# Altium footprint library piher.PCBLIB: 7 footprints
Each footprint in its own frame and in the unit in brackets; x right, y up, seen from the top. Pads: shape width x height; smd on the part's side, far side on the other; paste and mask are expansions set on the pad; w line width, h text height; cw(c..) or ccw(c..) is an arc to the next point about the centre after c.
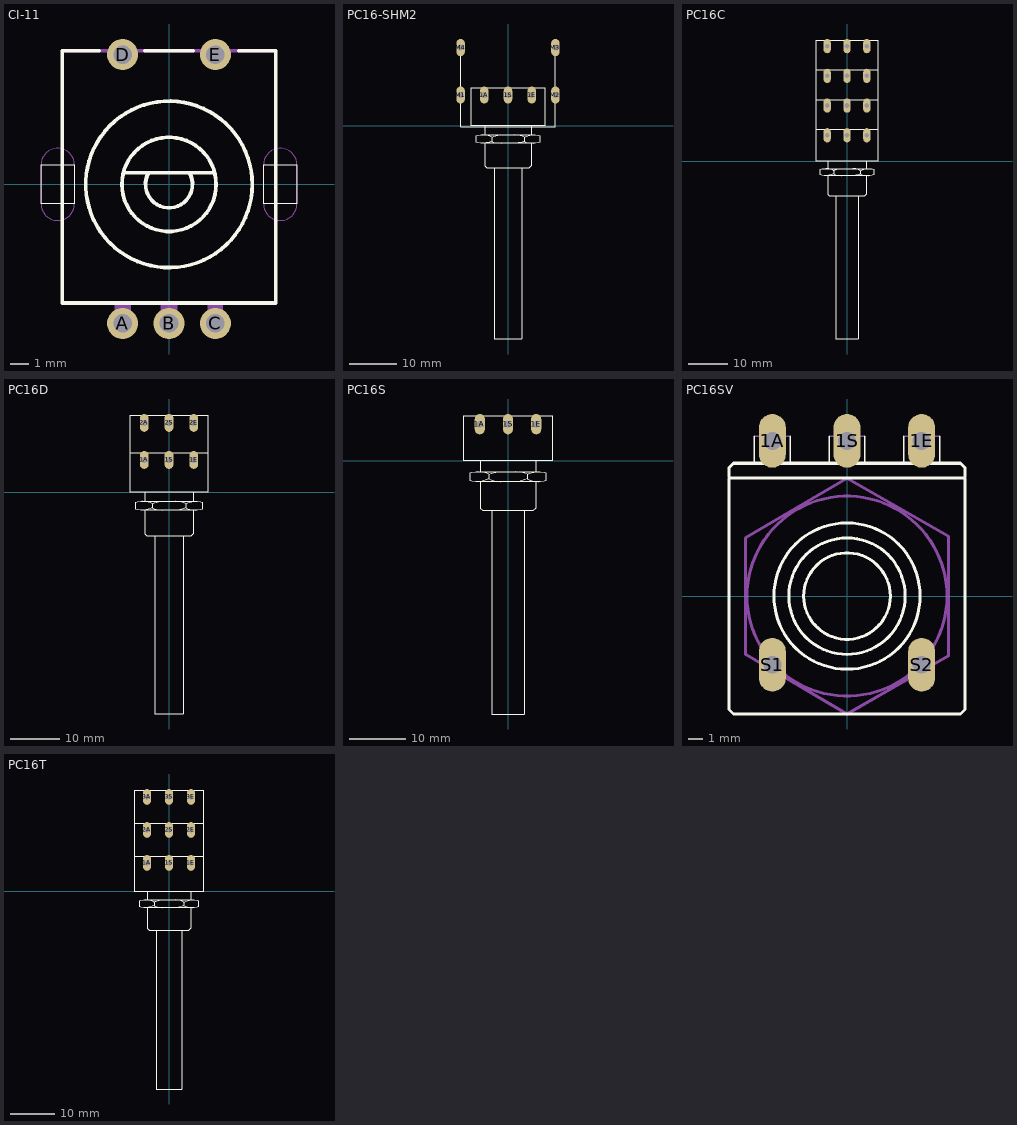
[diagram p0: the footprints below, top view; thin cyan lines are the x and y axes]

## CI-11 [mil]
pads (5):
  round 66 hole 39.37: A(-98.43,-295.28) B(0,-295.28) C(98.43,-295.28) D(-98.43,275.59) E(98.43,275.59)
Top Overlay:
  circle w8: c0,0 r176.78
  circle w8: c0,0 r100
  lines w0: -271.65,-41.34 -200.79,-41.34 -200.79,41.34 -271.65,41.34 -271.65,-41.34 ; 200.79,-41.34 271.65,-41.34 271.65,41.34 200.79,41.34 200.79,-41.34
  lines w8: -148.62,283.46 -226.38,283.46 -226.38,-251.97 226.38,-251.97 226.38,283.46 148.62,283.46 ; -96.46,24.61 95.47,24.61 ; -51.38,283.46 51.38,283.46 ; -43.31,24.61 ccw(c0,0) 43.31,24.61 -43.31,24.61
Mechanical 1:
  lines w0: -271.65,-41.34 -271.65,41.34 cw(c-236.22,41.34) -200.79,41.34 -200.79,-41.34 cw(c-236.22,-41.34) -271.65,-41.34 ; 200.79,-41.34 200.79,41.34 cw(c236.22,41.34) 271.65,41.34 271.65,-41.34 cw(c236.22,-41.34) 200.79,-41.34
Mechanical 16:
  rectangle: -116.14,-300.2 -80.71,-254.92
  rectangle: -17.72,-300.2 17.72,-254.92
  rectangle: 81.69,-300.2 115.16,-253.94
  lines w8: -226.38,283.46 226.38,283.46

## PC16-SHM2 [mm]
pads (7):
  oval 1.8x3.6 hole 1.2: 1A(-5,6.5) 1E(5,6.5) 1S(0,6.5) M1(-10,6.5) M2(10,6.5) M3(10,16.5) M4(-10,16.5)
Top Overlay:
  lines w0.203: -10,5.6 -10,-0.2 10,-0.2 10,5.6 ; -10,7.4 -10,15.5 ; -5.4,-3.7 -4.6,-3.6 -3.8,-3.4 -3.4,-3.2 ; -5.4,-1.9 -4.6,-2 -3.8,-2.2 -3.4,-2.4 ; -2.9,-8.9 -2.9,-44.9 2.9,-44.9 2.9,-8.9 ; -1.4,-3.7 -2.2,-3.6 -3,-3.4 -3.4,-3.2 ; -1.4,-1.9 -2.2,-2 -3,-2.2 -3.4,-2.4 ; 1.4,-3.7 2.2,-3.6 3,-3.4 3.4,-3.2 ; 1.4,-1.9 2.2,-2 3,-2.2 3.4,-2.4 ; 5.4,-3.7 4.6,-3.6 3.8,-3.4 3.4,-3.2 ; 5.4,-1.9 4.6,-2 3.8,-2.2 3.4,-2.4 ; 10,7.4 10,15.5 ; -4.9,-3.7 -4.9,-8.4 -4.5,-8.8 4.5,-8.8 4.9,-8.4 4.9,-3.7 ; -4.9,-3.7 4.9,-3.7 ; -4.9,-3.7 -5.7,-3.7 -6.4,-3.6 -6.7,-3.5 -6.7,-2.1 -6.4,-2 -5.7,-1.9 -4.9,-1.9 ; -4.9,-1.9 -4.9,0.1 ; -4.9,-1.9 4.9,-1.9 ; -4.9,0.1 -7.9,0.1 -7.9,8 7.9,8 7.9,0.1 4.9,0.1 ; -4.9,0.1 4.9,0.1 ; -3.4,-3.2 -3.4,-2.4 ; 3.4,-3.2 3.4,-2.4 ; 4.9,-3.7 5.7,-3.7 6.4,-3.6 6.7,-3.5 6.7,-2.1 6.4,-2 5.7,-1.9 4.9,-1.9 ; 4.9,-1.9 4.9,0.1
Mechanical 16:
  lines w0.203: -10,5.6 -10,7.4 ; -10,15.5 -10,17.1 ; 10,5.6 10,7.4 ; 10,15.5 10,17.1

## PC16C [mm]
pads (12):
  oval 1.8x3.6 hole 1.2: 1A(-5,6.5) 1E(5,6.5) 1S(0,6.5) 2A(-5,14) 2E(5,14) 2S(0,14) 3A(-5,21.5) 3E(5,21.5) 3S(0,21.5) 4A(-5,29) 4E(5,29) 4S(0,29)
Top Overlay:
  lines w0.203: -7.9,7.6 -7.9,15.5 7.9,15.5 7.9,7.6 ; -7.9,15.1 -7.9,23 7.9,23 7.9,15.1 ; -7.9,22.6 -7.9,30.5 7.9,30.5 7.9,22.6 ; -5.4,-3.7 -4.6,-3.6 -3.8,-3.4 -3.4,-3.2 ; -5.4,-1.9 -4.6,-2 -3.8,-2.2 -3.4,-2.4 ; -2.9,-8.9 -2.9,-44.9 2.9,-44.9 2.9,-8.9 ; -1.4,-3.7 -2.2,-3.6 -3,-3.4 -3.4,-3.2 ; -1.4,-1.9 -2.2,-2 -3,-2.2 -3.4,-2.4 ; 1.4,-3.7 2.2,-3.6 3,-3.4 3.4,-3.2 ; 1.4,-1.9 2.2,-2 3,-2.2 3.4,-2.4 ; 5.4,-3.7 4.6,-3.6 3.8,-3.4 3.4,-3.2 ; 5.4,-1.9 4.6,-2 3.8,-2.2 3.4,-2.4 ; -4.9,-3.7 -4.9,-8.4 -4.5,-8.8 4.5,-8.8 4.9,-8.4 4.9,-3.7 ; -4.9,-3.7 4.9,-3.7 ; -4.9,-3.7 -5.7,-3.7 -6.4,-3.6 -6.7,-3.5 -6.7,-2.1 -6.4,-2 -5.7,-1.9 -4.9,-1.9 ; -4.9,-1.9 -4.9,0.1 ; -4.9,-1.9 4.9,-1.9 ; -4.9,0.1 -7.9,0.1 -7.9,8 7.9,8 7.9,0.1 4.9,0.1 ; -4.9,0.1 4.9,0.1 ; -3.4,-3.2 -3.4,-2.4 ; 3.4,-3.2 3.4,-2.4 ; 4.9,-3.7 5.7,-3.7 6.4,-3.6 6.7,-3.5 6.7,-2.1 6.4,-2 5.7,-1.9 4.9,-1.9 ; 4.9,-1.9 4.9,0.1

## PC16D [mm]
pads (6):
  oval 1.8x3.6 hole 1.2: 1A(-5,6.5) 1E(5,6.5) 1S(0,6.5) 2A(-5,14) 2E(5,14) 2S(0,14)
Top Overlay:
  lines w0.203: -7.9,7.6 -7.9,15.5 7.9,15.5 7.9,7.6 ; -5.4,-3.7 -4.6,-3.6 -3.8,-3.4 -3.4,-3.2 ; -5.4,-1.9 -4.6,-2 -3.8,-2.2 -3.4,-2.4 ; -2.9,-8.9 -2.9,-44.9 2.9,-44.9 2.9,-8.9 ; -1.4,-3.7 -2.2,-3.6 -3,-3.4 -3.4,-3.2 ; -1.4,-1.9 -2.2,-2 -3,-2.2 -3.4,-2.4 ; 1.4,-3.7 2.2,-3.6 3,-3.4 3.4,-3.2 ; 1.4,-1.9 2.2,-2 3,-2.2 3.4,-2.4 ; 5.4,-3.7 4.6,-3.6 3.8,-3.4 3.4,-3.2 ; 5.4,-1.9 4.6,-2 3.8,-2.2 3.4,-2.4 ; -4.9,-3.7 -4.9,-8.4 -4.5,-8.8 4.5,-8.8 4.9,-8.4 4.9,-3.7 ; -4.9,-3.7 4.9,-3.7 ; -4.9,-3.7 -5.7,-3.7 -6.4,-3.6 -6.7,-3.5 -6.7,-2.1 -6.4,-2 -5.7,-1.9 -4.9,-1.9 ; -4.9,-1.9 -4.9,0.1 ; -4.9,-1.9 4.9,-1.9 ; -4.9,0.1 -7.9,0.1 -7.9,8 7.9,8 7.9,0.1 4.9,0.1 ; -4.9,0.1 4.9,0.1 ; -3.4,-3.2 -3.4,-2.4 ; 3.4,-3.2 3.4,-2.4 ; 4.9,-3.7 5.7,-3.7 6.4,-3.6 6.7,-3.5 6.7,-2.1 6.4,-2 5.7,-1.9 4.9,-1.9 ; 4.9,-1.9 4.9,0.1

## PC16S [mm]
pads (3):
  oval 1.8x3.6 hole 1.2: 1A(-5,6.5) 1E(5,6.5) 1S(0,6.5)
Top Overlay:
  lines w0.203: -5.4,-3.7 -4.6,-3.6 -3.8,-3.4 -3.4,-3.2 -3.4,-2.4 ; -5.4,-1.9 -4.6,-2 -3.8,-2.2 -3.4,-2.4 ; -3.407,-3.2 -3.007,-3.4 ; -3,-3.4 -2.2,-3.6 -1.4,-3.7 ; -2.9,-8.9 -2.9,-44.9 2.9,-44.9 2.9,-8.9 ; -1.4,-1.9 -2.2,-2 -3,-2.2 -3.4,-2.4 ; 1.4,-3.7 2.2,-3.6 3,-3.4 3.4,-3.2 ; 1.4,-1.9 2.2,-2 3,-2.2 3.4,-2.4 ; 5.4,-3.7 4.6,-3.6 3.8,-3.4 3.4,-3.2 ; 5.4,-1.9 4.6,-2 3.8,-2.2 3.4,-2.4 ; -4.9,-3.7 -4.9,-8.4 -4.5,-8.8 4.5,-8.8 4.9,-8.4 4.9,-3.7 ; -4.9,-3.7 4.9,-3.7 ; -4.9,-3.7 -5.7,-3.7 -6.4,-3.6 -6.7,-3.5 -6.7,-2.1 -6.4,-2 -5.7,-1.9 -4.9,-1.9 ; -4.9,-1.9 -4.9,0.1 ; -4.9,-1.9 4.9,-1.9 ; -4.9,0.1 -7.9,0.1 -7.9,8 7.9,8 7.9,0.1 4.9,0.1 ; -4.9,0.1 4.9,0.1 ; 3.4,-3.2 3.4,-2.4 ; 4.9,-3.7 5.7,-3.7 6.4,-3.6 6.7,-3.5 6.7,-2.1 6.4,-2 5.7,-1.9 4.9,-1.9 ; 4.9,-1.9 4.9,0.1

## PC16SV [mm]
pads (5):
  oval 1.8x3.6 hole 1.2: 1A(-5,10.4) 1E(5,10.4) 1S(0,10.4) S1(-5,-4.6) S2(5,-4.6)
Top Overlay:
  circle w0.203: c0,0 r4.9
  circle w0.203: c0,0 r2.9
  circle w0.203: c0,0 r3.9
  lines w0.102: -6.2,9 -6.2,10.7 ; -3.8,9 -3.8,10.7 ; -1.2,9 -1.2,10.7 ; 1.2,9 1.2,10.7 ; 3.8,9 3.8,10.7 ; 6.2,9 6.2,10.7
  lines w0.203: -7.9,8 -7.9,8.6 -7.6,8.9 7.6,8.9 7.9,8.6 7.9,8 ; -7.9,-7.6 -7.9,7.9 0,7.9 7.9,7.9 7.9,-7.6 7.6,-7.9 0,-7.9 -7.6,-7.9 -7.9,-7.6
Mechanical 16:
  circle w0.203: c0,0 r6.7
  lines w0.102: -6.2,10.7 -3.8,10.7 ; -1.2,10.7 1.2,10.7 ; 3.8,10.7 6.2,10.7
  lines w0.203: -6.8,-3.9 0,-7.9 6.8,-4 6.8,4 0,7.9 -6.8,3.9 -6.8,-3.9

## PC16T [mm]
pads (9):
  oval 1.8x3.6 hole 1.2: 1A(-5,6.5) 1E(5,6.5) 1S(0,6.5) 2A(-5,14) 2E(5,14) 2S(0,14) 3A(-5,21.5) 3E(5,21.5) 3S(0,21.5)
Top Overlay:
  lines w0.203: -7.9,7.6 -7.9,15.5 7.9,15.5 7.9,7.6 ; -7.9,15.1 -7.9,23 7.9,23 7.9,15.1 ; -5.4,-3.7 -4.6,-3.6 -3.8,-3.4 -3.4,-3.2 ; -5.4,-1.9 -4.6,-2 -3.8,-2.2 -3.4,-2.4 ; -2.9,-8.9 -2.9,-44.9 2.9,-44.9 2.9,-8.9 ; -1.4,-3.7 -2.2,-3.6 -3,-3.4 -3.4,-3.2 ; -1.4,-1.9 -2.2,-2 -3,-2.2 -3.4,-2.4 ; 1.4,-3.7 2.2,-3.6 3,-3.4 3.4,-3.2 ; 1.4,-1.9 2.2,-2 3,-2.2 3.4,-2.4 ; 5.4,-3.7 4.6,-3.6 3.8,-3.4 3.4,-3.2 ; 5.4,-1.9 4.6,-2 3.8,-2.2 3.4,-2.4 ; -4.9,-3.7 -4.9,-8.4 -4.5,-8.8 4.5,-8.8 4.9,-8.4 4.9,-3.7 ; -4.9,-3.7 4.9,-3.7 ; -4.9,-3.7 -5.7,-3.7 -6.4,-3.6 -6.7,-3.5 -6.7,-2.1 -6.4,-2 -5.7,-1.9 -4.9,-1.9 ; -4.9,-1.9 -4.9,0.1 ; -4.9,-1.9 4.9,-1.9 ; -4.9,0.1 -7.9,0.1 -7.9,8 7.9,8 7.9,0.1 4.9,0.1 ; -4.9,0.1 4.9,0.1 ; -3.4,-3.2 -3.4,-2.4 ; 3.4,-3.2 3.4,-2.4 ; 4.9,-3.7 5.7,-3.7 6.4,-3.6 6.7,-3.5 6.7,-2.1 6.4,-2 5.7,-1.9 4.9,-1.9 ; 4.9,-1.9 4.9,0.1